# Altium footprint library 5A_BRULA,Tomas.PcbLib: 97 footprints (part 1 of 7)
Each footprint in its own frame and in the unit in brackets; x right, y up, seen from the top. Pads: shape width x height; smd on the part's side, far side on the other; paste and mask are expansions set on the pad; w line width, h text height; cw(c..) or ccw(c..) is an arc to the next point about the centre after c.
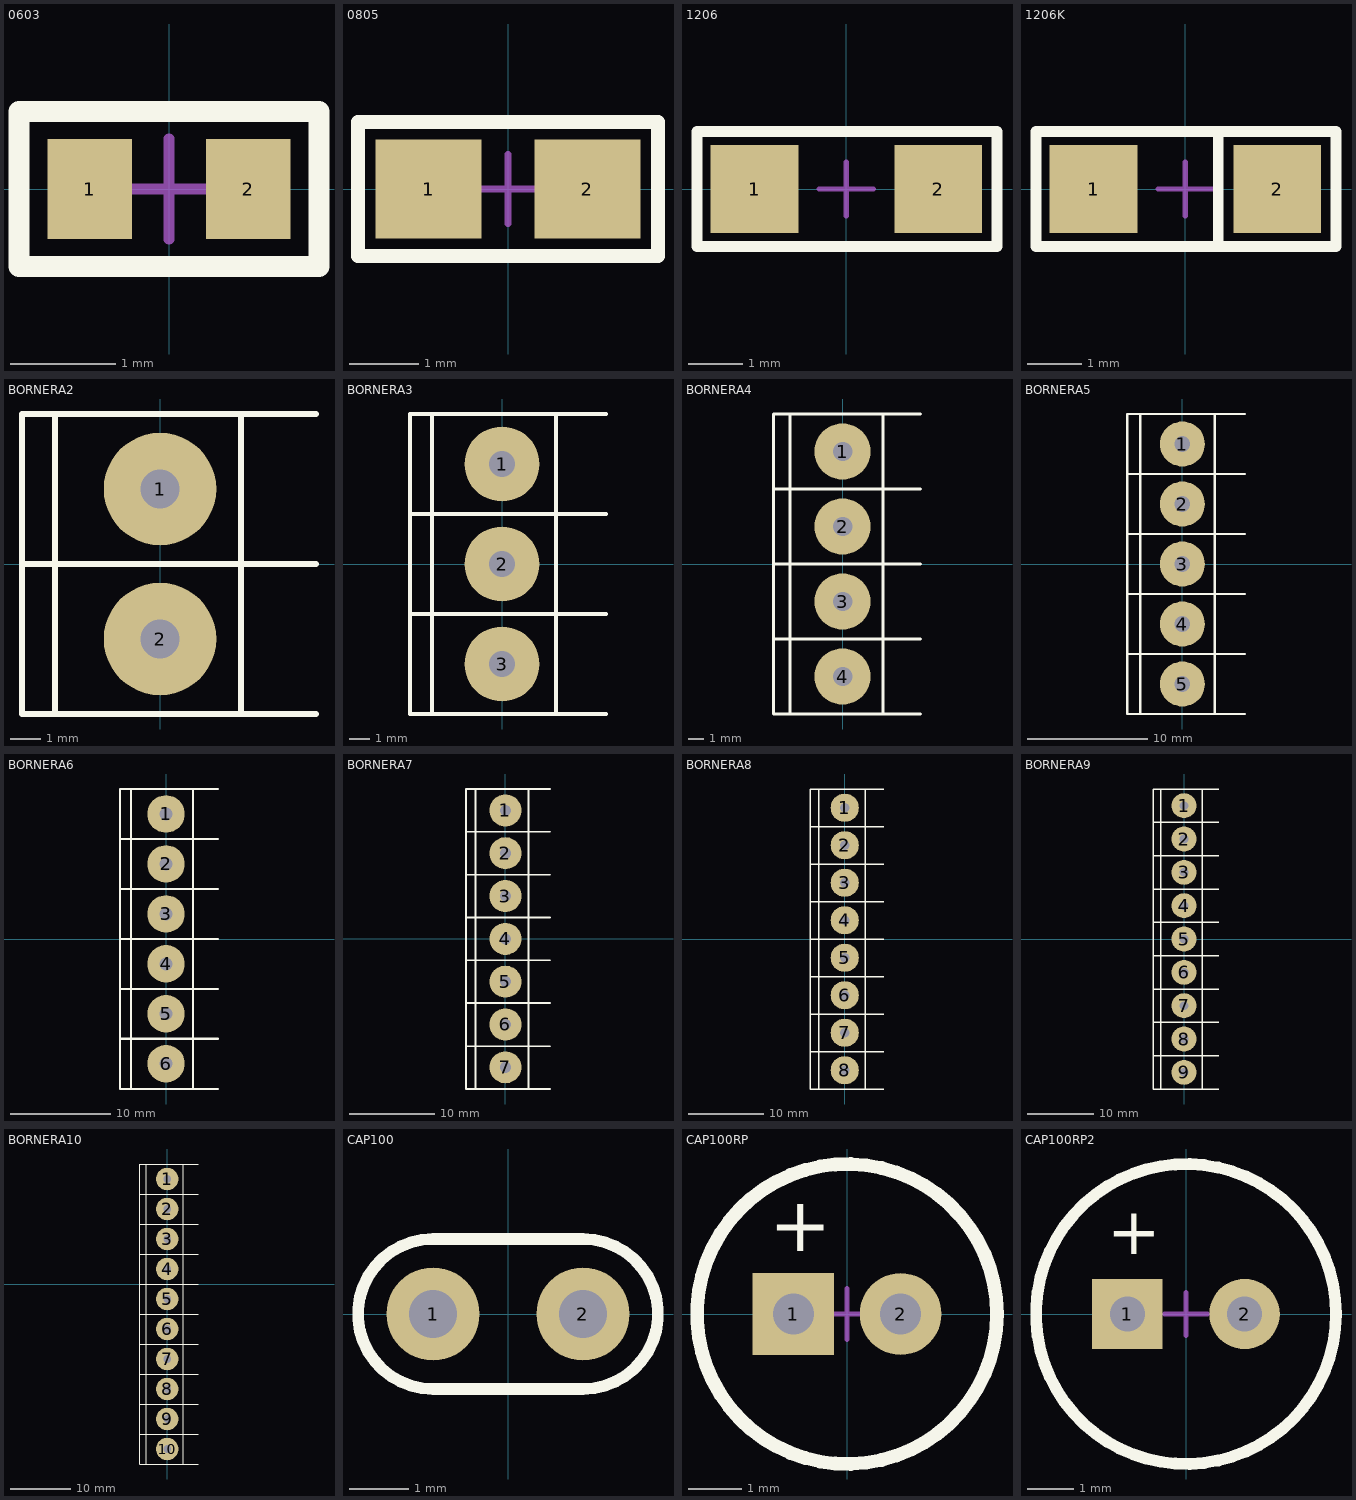
[diagram p0: the footprints below, top view; thin cyan lines are the x and y axes]

## 0603 [mm] "Pasivo 0603"
height 0.55
pads (2):
  rect 0.8x0.95 smd: 1(-0.75,0) 2(0.75,0)
Top Overlay:
  lines w0.2: -1.422,-0.737 1.422,-0.737 1.422,0.737 -1.422,0.737 -1.422,-0.737
Mechanical 15:
  lines w0.1: -0.475,0 0.475,0 ; 0,-0.475 0,0.475
3D body "0603.STEP": height 0.44, standoff -0.03, extent -0.8,-0.406 0.8,0.394

## 0805 [mil] "Pasivo 0805"
height 27.56
pads (2):
  rect 60x56 smd: 1(-45,0) 2(45,0)
Top Overlay:
  lines w7.87: -85,-38 85,-38 85,38 -85,38 -85,-38
Mechanical 15:
  lines w3.94: -19.69,0 19.68,0 ; 0,-19.68 0,19.68
3D body "0805.STEP": height 15.35, standoff -0.79, extent -39.5,-24.5 39.24,24.71

## 1206 [mil] "Pasivo 1206"
height 27.56
pads (2):
  rect 64x64 smd: 1(-67,0) 2(67,0)
Top Overlay:
  lines w7.87: -109,-42 110,-42 110,42 -109,42 -109,-42
Mechanical 15:
  lines w3.94: -19.68,0 19.69,0 ; 0,-19.68 0,19.69
3D body "1206.STEP": height 19.68, standoff -0.39, extent -62.5,-31.5 63.48,31.49

## 1206K [mil] "1206 con Katodo"
height 27.56
pads (2):
  rect 64x64 smd: 1(-67,0) 2(67,0)
Top Overlay:
  lines w7.87: 24,-42 24,42 ; -109,-42 -109,42 110,42 110,-42 -109,-42
Mechanical 15:
  lines w3.94: -19.68,0 19.69,0 ; 0,-19.68 0,19.69
3D body "SOD80.STEP": height 62.99, standoff 0, extent -72,-30.99 73.67,32

## BORNERA2 [mm] "Bornera con Tornillos 5mm separación"
pads (2):
  round 3.75 hole 1.3: 1(0,2.5) 2(0,-2.5)
Top Overlay:
  lines w0.2: -4.6,0 5.2,0 ; -3.5,-5 -3.5,5 ; 2.7,-5 2.7,5 ; 5.2,-5 -4.6,-5 -4.6,5 5.2,5
3D body "BORNERA_2.step": height 10, standoff -2.28, extent -3.763,-4.892 3.937,5.607

## BORNERA3 [mm] "Bornera con Tornillos 5mm separación"
pads (3):
  round 3.75 hole 1.3: 1(0,5) 2(0,0) 3(0,-5)
Top Overlay:
  lines w0.2: -4.6,-2.5 5.2,-2.5 ; -4.6,2.5 5.2,2.5 ; -3.5,-7.5 -3.5,7.5 ; 2.7,-7.5 2.7,7.5 ; 5.2,-7.5 -4.6,-7.5 -4.6,7.5 5.2,7.5
3D body "BORNERA_3.step": height 10.05, standoff -2.24, extent -3.763,-7.392 3.937,8.107

## BORNERA4 [mm] "Bornera con Tornillos 5mm separación"
pads (4):
  round 3.75 hole 1.3: 1(0,7.5) 2(0,2.5) 3(0,-2.5) 4(0,-7.5)
Top Overlay:
  lines w0.2: -4.6,-5 5.2,-5 ; -4.6,0 5.2,0 ; -4.6,5 5.2,5 ; -3.5,-10 -3.5,10 ; 2.7,-10 2.7,10 ; 5.2,-10 -4.6,-10 -4.6,10 5.2,10
3D body "BORNERA_2.step": height 10, standoff -2.28, extent -3.763,-9.892 3.937,0.607
3D body "BORNERA_2.step": height 10, standoff -2.28, extent -3.763,0.108 3.937,10.607

## BORNERA5 [mm] "Bornera con Tornillos 5mm separación"
pads (5):
  round 3.75 hole 1.3: 1(0,10) 2(0,5) 3(0,0) 4(0,-5) 5(0,-10)
Top Overlay:
  lines w0.2: -4.6,-7.5 5.2,-7.5 ; -4.6,-2.5 5.2,-2.5 ; -4.6,2.5 5.2,2.5 ; -4.6,7.5 5.2,7.5 ; -3.5,-12.5 -3.5,12.5 ; 2.7,-12.5 2.7,12.5 ; 5.2,-12.5 -4.6,-12.5 -4.6,12.5 5.2,12.5
3D body "BORNERA_3.step": height 10.05, standoff -2.24, extent -3.763,-2.392 3.937,13.107
3D body "BORNERA_2.step": height 10, standoff -2.28, extent -3.763,-12.392 3.937,-1.893

## BORNERA6 [mm] "Bornera con Tornillos 5mm separación"
pads (6):
  round 3.75 hole 1.3: 1(0,12.517) 2(0,7.517) 3(0,2.516) 4(0,-2.484) 5(0,-7.484) 6(0,-12.484)
Top Overlay:
  lines w0.2: -4.6,-10.017 5.2,-10.017 ; -4.6,-9.984 5.2,-9.984 ; -4.6,-4.984 5.2,-4.984 ; -4.6,0.016 5.2,0.016 ; -4.6,5.016 5.2,5.016 ; -4.6,10.017 5.2,10.017 ; -3.5,-15.017 -3.5,15.017 ; 2.7,-15.017 2.7,15.017 ; 5.2,-15.017 -4.6,-15.017 -4.6,15.017 5.2,15.017
3D body "BORNERA_3.step": height 10.05, standoff -2.24, extent -3.763,-14.862 3.937,0.638
3D body "BORNERA_3.step": height 10.05, standoff -2.24, extent -3.763,0.124 3.937,15.624

## BORNERA7 [mm] "Bornera con Tornillos 5mm separación"
pads (7):
  round 3.75 hole 1.3: 1(0,15) 2(0,10) 3(0,5) 4(0,0) 5(0,-5) 6(0,-10) 7(0,-15)
Top Overlay:
  lines w0.2: -4.6,-12.533 5.2,-12.533 ; -4.6,-7.533 5.2,-7.533 ; -4.6,-7.5 5.2,-7.5 ; -4.6,-2.5 5.2,-2.5 ; -4.6,2.5 5.2,2.5 ; -4.6,7.5 5.2,7.5 ; -4.6,12.5 5.2,12.5 ; -3.5,-17.533 -3.5,17.5 ; 2.7,-17.533 2.7,17.5 ; 5.2,-17.533 -4.6,-17.533 -4.6,17.5 5.2,17.5
3D body "BORNERA_2.step": height 10, standoff -2.28, extent -3.763,-7.392 3.937,3.107
3D body "BORNERA_2.step": height 10, standoff -2.28, extent -3.763,-17.393 3.937,-6.893
3D body "BORNERA_3.step": height 10.05, standoff -2.24, extent -3.763,2.608 3.937,18.107

## BORNERA8 [mm] "Bornera con Tornillos 5mm separación"
pads (8):
  round 3.75 hole 1.3: 1(0,17.5) 2(0,12.5) 3(0,7.5) 4(0,2.5) 5(0,-2.5) 6(0,-7.5) 7(0,-12.5) 8(0,-17.5)
Top Overlay:
  lines w0.2: -4.6,-15 5.2,-15 ; -4.6,-10 5.2,-10 ; -4.6,-5 5.2,-5 ; -4.6,0 5.2,0 ; -4.6,5 5.2,5 ; -4.6,10 5.2,10 ; -4.6,15 5.2,15 ; -3.5,-20 -3.5,20 ; 2.7,-20 2.7,20 ; 5.2,-20 -4.6,-20 -4.6,20 5.2,20
3D body "BORNERA_2.step": height 10, standoff -2.28, extent -3.763,0.108 3.937,10.607
3D body "BORNERA_2.step": height 10, standoff -2.28, extent -3.763,10.108 3.937,20.608
3D body "BORNERA_2.step": height 10, standoff -2.28, extent -3.763,-9.892 3.937,0.607
3D body "BORNERA_2.step": height 10, standoff -2.28, extent -3.763,-19.893 3.937,-9.393

## BORNERA9 [mm] "Bornera con Tornillos 5mm separación"
pads (9):
  round 3.75 hole 1.3: 1(0,20) 2(0,15) 3(0,10) 4(0,5) 5(0,0) 6(0,-5) 7(0,-10) 8(0,-15) 9(0,-20)
Top Overlay:
  lines w0.2: -4.6,-17.5 5.2,-17.5 ; -4.6,-12.5 5.2,-12.5 ; -4.6,-7.5 5.2,-7.5 ; -4.6,-2.5 5.2,-2.5 ; -4.6,2.5 5.2,2.5 ; -4.6,7.5 5.2,7.5 ; -4.6,12.5 5.2,12.5 ; -4.6,17.5 5.2,17.5 ; -3.5,-22.5 -3.5,22.5 ; 2.7,-22.5 2.7,22.5 ; 5.2,-22.5 -4.6,-22.5 -4.6,22.5 5.2,22.5
3D body "BORNERA_3.step": height 10.05, standoff -2.24, extent -3.763,7.608 3.937,23.108
3D body "BORNERA_3.step": height 10.05, standoff -2.24, extent -3.763,-7.392 3.937,8.107
3D body "BORNERA_3.step": height 10.05, standoff -2.24, extent -3.763,-22.392 3.937,-6.893

## BORNERA10 [mm] "Bornera con Tornillos 5mm separación"
pads (10):
  round 3.75 hole 1.3: 1(0,17.5) 2(0,12.5) 3(0,7.5) 4(0,2.5) 5(0,-2.5) 6(0,-7.5) 7(0,-12.5) 8(0,-17.5) 9(0,-22.5) 10(0,-27.5)
Top Overlay:
  lines w0.2: -4.6,-25 5.2,-25 ; -4.6,-20 5.2,-20 ; -4.6,-15 5.2,-15 ; -4.6,-10 5.2,-10 ; -4.6,-5 5.2,-5 ; -4.6,0 5.2,0 ; -4.6,5 5.2,5 ; -4.6,10 5.2,10 ; -4.6,15 5.2,15 ; -3.5,-30 -3.5,20 ; 2.7,-30 2.7,20 ; 5.2,-30 -4.6,-30 -4.6,20 5.2,20
3D body "BORNERA_2.step": height 10, standoff -2.28, extent -3.763,-29.893 3.937,-19.393
3D body "BORNERA_2.step": height 10, standoff -2.28, extent -3.763,-19.893 3.937,-9.393
3D body "BORNERA_2.step": height 10, standoff -2.28, extent -3.763,-9.892 3.937,0.607
3D body "BORNERA_2.step": height 10, standoff -2.28, extent -3.763,10.108 3.937,20.608
3D body "BORNERA_2.step": height 10, standoff -2.28, extent -3.763,0.108 3.937,10.607

## CAP100 [mil]
pads (2):
  round 62 hole 32: 1(-50,0) 2(50,0)
Top Overlay:
  lines w7.87: -50,-50 cw(c-50,0) -50,50 50,50 cw(c50,0) 50,-50 -50,-50
3D body "CAP100.step": height 240.98, standoff -70.87, extent -114.93,-33 114.93,33.79

## CAP100RP [mil] "Body diameter 5mm"
pads (2):
  rect 60x60 hole 30: 1(-39.37,0)
  round 60 hole 30: 2(39.37,0)
Top Overlay:
  circle w10: c0,0 r110
  text "+" at -57,46 h40
Mechanical 15:
  lines w3.94: -18.7,0 18.7,0 ; 0,-18.7 0,18.7
3D body "User Library-Cap electro 5x11x2mm.step": height 453.76, standoff -128.81, extent -99.43,-99 99.43,99.85

## CAP100RP2 [mil] "Body diameter 6.5mm"
pads (2):
  rect 60x60 hole 30: 1(-50,0)
  round 60 hole 30: 2(50,0)
Top Overlay:
  circle w10: c0,0 r127.95
  text "+" at -67,51 h40
Mechanical 15:
  lines w3.94: -18.7,0 18.7,0 ; 0,-18.7 0,18.7
3D body "User Library-Cap electro 6_3x11x2_5mm.step": height 453.76, standoff -118.67, extent -124,-125.02 126.03,125.02